# Altium footprint library 1.03-压敏电阻.PcbLib: 7 footprints
Each footprint in its own frame and in the unit in brackets; x right, y up, seen from the top. Pads: shape width x height; smd on the part's side, far side on the other; paste and mask are expansions set on the pad; w line width, h text height; cw(c..) or ccw(c..) is an arc to the next point about the centre after c.
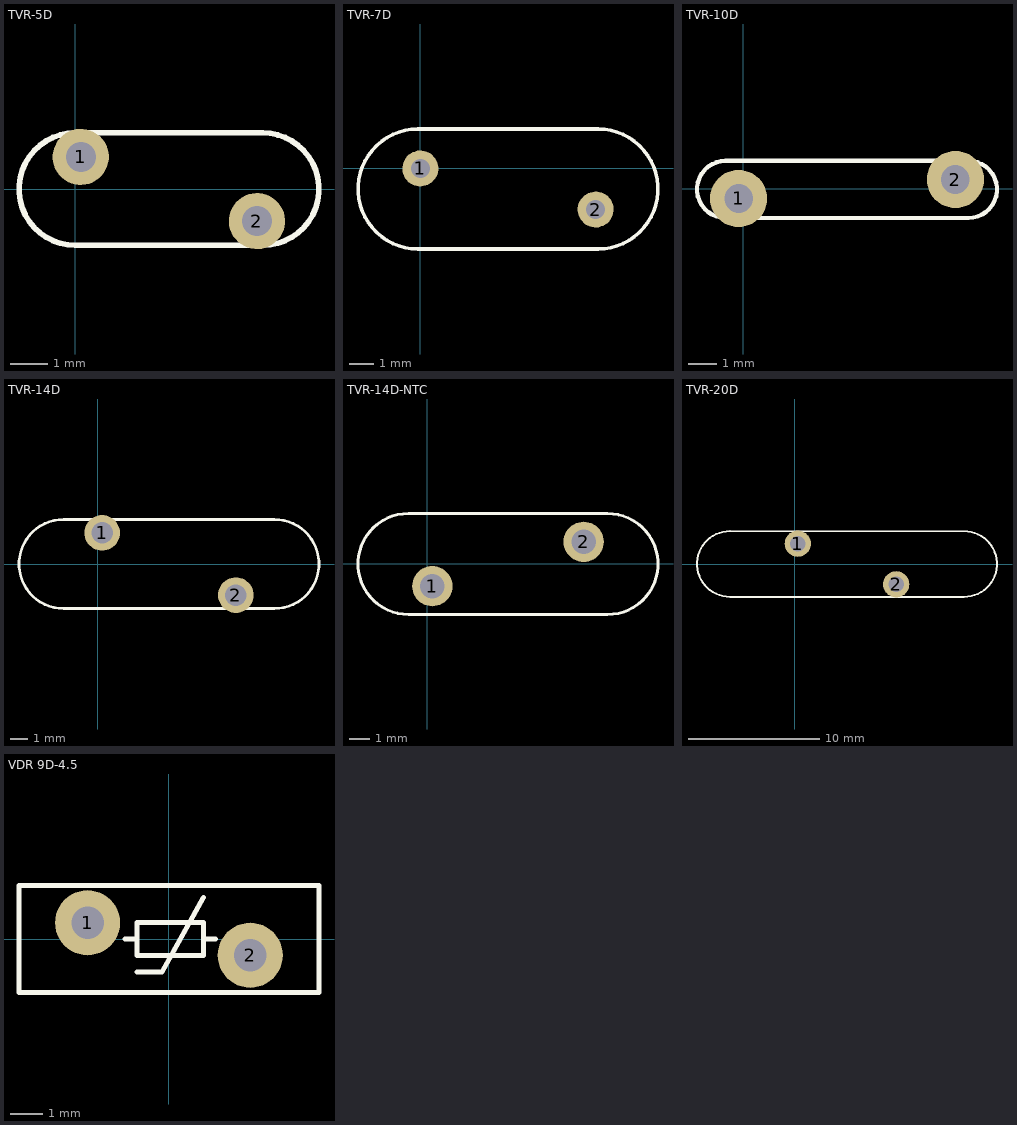
[diagram p0: the footprints below, top view; thin cyan lines are the x and y axes]

## TVR-5D [mm]
pads (2):
  round 1.5 hole 0.8: 1(0.147,0.858) 2(4.845,-0.852)
Top Overlay:
  lines w0.15: 0,-1.5 cw(c0,0) 0,1.5 5,1.5 cw(c5,0) 5,-1.5 0,-1.5
3D body "User Library-B57237.STEP": height 24.5, standoff -1.95, extent -4.025,-3.573 10.975,3.427

## TVR-7D [mm]
pads (2):
  round 1.5 hole 0.8: 1(0,0) 2(7.302,-1.71)
Top Overlay:
  lines w0.15: -0.099,-3.355 cw(c-0.099,-0.855) -0.099,1.645 7.401,1.645 cw(c7.401,-0.855) 7.401,-3.355 -0.099,-3.355
3D body "电?": height 2.85, standoff -20.25, extent -2.599,-3.355 9.901,1.645

## TVR-10D [mm]
pads (2):
  round 2 hole 1: 1(-0.159,-0.334) 2(7.432,0.33)
Top Overlay:
  lines w0.15: -0.613,-1.016 cw(c-0.613,-0.016) -0.613,0.984 7.887,0.984 cw(c7.887,-0.016) 7.887,-1.016 -0.613,-1.016
3D body "User Library-final MOV7,5.step": height 16.5, standoff -2, extent -1.865,-0.927 9.418,0.923

## TVR-14D [mm] "淘宝ID:黄晶宝石   店铺网址:https://shop463601444.taobao.com"
pads (2):
  round 2 hole 1.2: 1(0.25,1.75) 2(7.75,-1.75)
Top Overlay:
  lines w0.15: -1.921,-2.5 cw(c-1.921,0) -1.921,2.5 9.921,2.5 cw(c9.921,0) 9.921,-2.5 -1.921,-2.5
3D body "User Library-MOV 14mm.step": height 20.5, standoff -2, extent -4.496,-3.15 12.496,3.15

## TVR-14D-NTC [mm] "淘宝ID:黄晶宝石   店铺网址:https://shop463601444.taobao.com"
pads (2):
  round 2 hole 1.2: 1(0.25,-1.1) 2(7.75,1.1)
Top Overlay:
  lines w0.15: -0.929,-2.5 8.929,-2.5 ; -0.929,-2.498 cw(c-0.929,0.002) -0.929,2.502 ; -0.929,2.5 8.929,2.5 ; 8.929,-2.502 ccw(c8.929,-0.002) 8.929,2.498
3D body "User Library-SG200.step": height 15.5, standoff -8.5, extent -3.5,-2.505 11.5,2.505

## TVR-20D [mm] "淘宝ID:黄晶宝石   店铺网址:https://shop463601444.taobao.com"
pads (2):
  round 2 hole 1.2: 1(0.25,1.55) 2(7.75,-1.55)
Top Overlay:
  lines w0.15: -4.935,-2.5 12.935,-2.5 ; -4.935,-2.497 cw(c-4.935,0.003) -4.935,2.503 ; -4.935,2.501 12.935,2.497 cw(c12.935,-0.003) 12.935,-2.503
3D body "User Library-MOV 20mm.step": height 27.01, standoff -2, extent -7.506,-2.603 15.506,2.604

## VDR 9D-4.5 [mm] "压敏电阻9mm*4.5mm(直径*厚度）          淘宝ID:黄晶宝石"
pads (2):
  round 2 hole 1: 1(-2.5,0.5) 2(2.5,-0.5)
Top Overlay:
  lines w0.152: -1.357,0 -0.976,0 ; -0.976,-1.016 -0.214,-1.016 1.056,1.27 ; 1.056,0 1.437,0 ; -4.608,-1.651 -4.608,1.651 4.612,1.651 4.612,-1.651 -4.608,-1.651 ; -0.976,-0.508 1.056,-0.508 1.056,0.508 -0.976,0.508 -0.976,-0.508
3D body "9D-4.5.STEP": height 10, standoff -3.5, extent -4.5,-1.5 4.5,1.5